# EAGLE library part IRF7509 (library SparkFun-DiscreteSemi)
Dual N and P Channel MOSFET Dual N/P-Channel 30V 1.25 W 7.8/7.5 nC Hexfet Power Mosfet Surface Mount-MICRO-8. NMOS RDS(ON) 0.11Ω. PMOS RDS(ON) 0.20Ω. Link to datasheet <http://www.irf.com/product-info/datasheets/data/irf7509pbf.pdf> SparkFun Products: SparkFun RedBot Mainboard <https://www.sparkfun.com/products/12097> SparkFun Wake on Shake <https://www.sparkfun.com/products/11447>
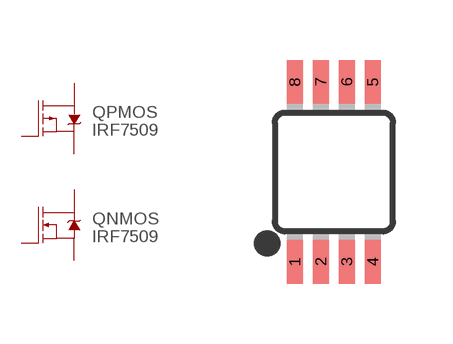
[diagram p2: symbol with the pads of MSOP8; footprint MSOP8]

Designator prefix Q; gates NMOS=LABELED-NMOS PMOS=LABELED-PMOS

## IRF7509 (PROD_ID: TRANS-07913)  [MSOP8]
1  NMOS:S
2  NMOS:G
3  PMOS:S
4  PMOS:G
5  PMOS:D
6  PMOS:D
7  NMOS:D
8  NMOS:D

## Footprint MSOP8 (pad centres in mm)
8M, 8-Lead, 0.118" Wide, Miniature Small Outline Package MSOP 8M-Package doc1097.pdf
smd 0.4 x 1.1: 1 -0.975,-2.25; 2 -0.325,-2.25; 3 0.325,-2.25; 4 0.975,-2.25; 5 0.975,2.25; 6 0.325,2.25; 7 -0.325,2.25; 8 -0.975,2.25